# Altium footprint library HLK-10M05.PcbLib: 3 footprints
Each footprint in its own frame and in the unit in brackets; x right, y up, seen from the top. Pads: shape width x height; smd on the part's side, far side on the other; paste and mask are expansions set on the pad; w line width, h text height; cw(c..) or ccw(c..) is an arc to the next point about the centre after c.
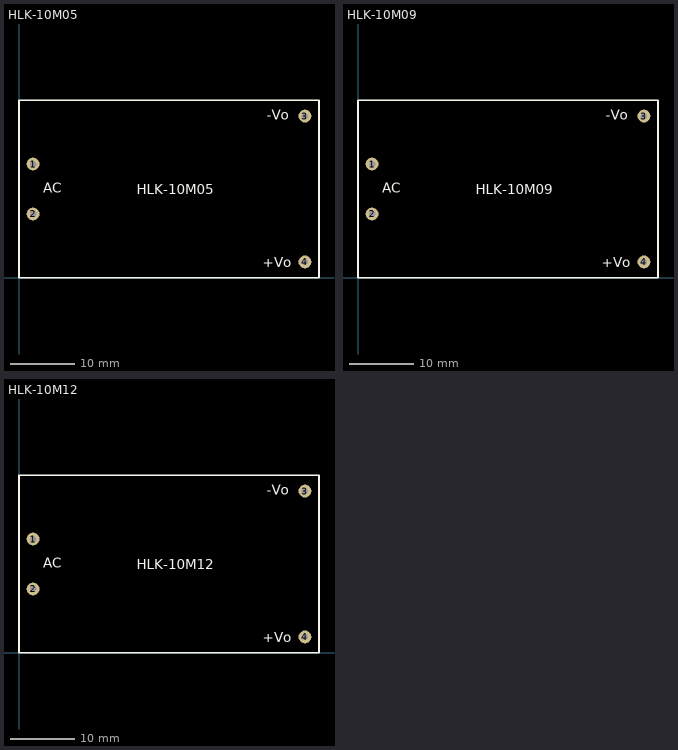
[diagram p0: the footprints below, top view; thin cyan lines are the x and y axes]

## HLK-10M05 [mm] "HLK-10M05 100-250Vca/5Vcc 10W"
pads (4):
  round 2 hole 1: 1(2.2,17.8) 2(2.2,10) 3(44.7,25.3) 4(44.7,2.5)
Top Overlay:
  lines w0.254: 0,0 46.9,0 46.9,27.8 0,27.8 0,0
  text "AC" at 3.81,13.335 h1.52
  text "-Vo" at 38.735,24.765 h1.52
  text "+Vo" at 38.1,1.651 h1.52
  text "HLK-10M05" at 18.415,13.081 h1.52
3D body "HLK-10M05.stp": height 18.01, standoff -2, extent 0,-0.057 46.9,27.743

## HLK-10M09 [mm] "HLK-10M09 100-250Vca/9Vcc 10W"
pads (4):
  round 2 hole 1: 1(2.2,17.8) 2(2.2,10) 3(44.7,25.3) 4(44.7,2.5)
Top Overlay:
  lines w0.254: 0,0 46.9,0 46.9,27.8 0,27.8 0,0
  text "AC" at 3.81,13.335 h1.52
  text "-Vo" at 38.735,24.765 h1.52
  text "+Vo" at 38.1,1.651 h1.52
  text "HLK-10M09" at 18.415,13.081 h1.52
3D body "HLK-10M09.stp": height 18.01, standoff -2, extent -0.127,-0.057 46.773,27.743

## HLK-10M12 [mm] "HLK-10M12 100-250Vca/12Vcc 10W"
pads (4):
  round 2 hole 1: 1(2.2,17.8) 2(2.2,10) 3(44.7,25.3) 4(44.7,2.5)
Top Overlay:
  lines w0.254: 0,0 0,27.8 46.9,27.8 46.9,0 0,0
  text "HLK-10M12" at 18.415,13.081 h1.52
  text "+Vo" at 38.1,1.651 h1.52
  text "-Vo" at 38.735,24.765 h1.52
  text "AC" at 3.81,13.335 h1.52
3D body "HLK-10M12.stp": height 18.01, standoff -2, extent 0,-0.057 46.9,27.743